# EAGLE library part TPS62740DSSR (library Deegou_IC)
Ultra-low-power 300mA Step-Down Buck DCDC Converter with 360nA Iq Source: Datasheet <http://www.ti.com/lit/gpn/tps62740>
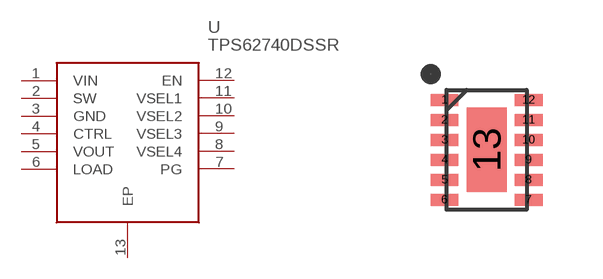
[diagram p156: symbol with the pads of SON50P200X300X80-13N; footprint SON50P200X300X80-13N]

Designator prefix U

## TPS62740DSSR (ARROW_PART_NUMBER: TPS62740DSSR; ARROW_PRICE/STOCK: https://www.arrow.com/en/products/tps62740dssr/texas-instruments; DESCRIPTION: Ultra-low-power 300mA Step-Down Buck DCDC Converter with 360nA Iq; HEIGHT: 0.8mm; MANUFACTURER_NAME: Texas Instruments; MANUFACTURER_PART_NUMBER: TPS62740DSSR)  [SON50P200X300X80-13N]
1  VIN  in
2  SW
3  GND  pwr
4  CTRL
5  VOUT  out
6  LOAD
7  PG
8  VSEL4
9  VSEL3
10  VSEL2
11  VSEL1
12  EN
13  EP

## Footprint SON50P200X300X80-13N (pad centres in mm)
DSS (R-PWSON-N12)
smd 0.7 x 0.3: 1 -1.05,1.25; 2 -1.05,0.75; 3 -1.05,0.25; 4 -1.05,-0.25; 5 -1.05,-0.75; 6 -1.05,-1.25; 7 1.05,-1.25; 8 1.05,-0.75; 9 1.05,-0.25; 10 1.05,0.25; 11 1.05,0.75; 12 1.05,1.25
smd 1 x 2.1: 13 0,0